# Altium schematic symbol library LMH6629.SchLib: 1 symbol
Pins are listed as number, name and electrical type; pins without a type are passive.

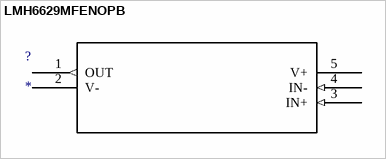
[diagram p0: symbol LMH6629MFENOPB]

## LMH6629MFENOPB
designator ?
Imported; Manufacturer: Texas Instruments; Manufacturer_Part_Number: lmh6629_dbv_5; basePN: LMH6629; NSC_PackageReference: MF05A; Vendor: National Semiconductor; C: Copyright (C) 2015 Accelerated Designs. All rights reserved; DatasheetURL: http://www.ti.com/lit/ds/symlink/lmh6629.pdf; Copyright: Copyright (C) 2015 Accelerated Designs. All rights reserved; RefDes: RefDes; Type: DEV; Value: Value
footprint MF05A
pins: 1 OUT (out), 2 V- (power), 3 IN+ (in), 4 IN- (in), 5 V+ (power)